# EAGLE library part LCDHEADERS (library third_eye)
PIN HEADER
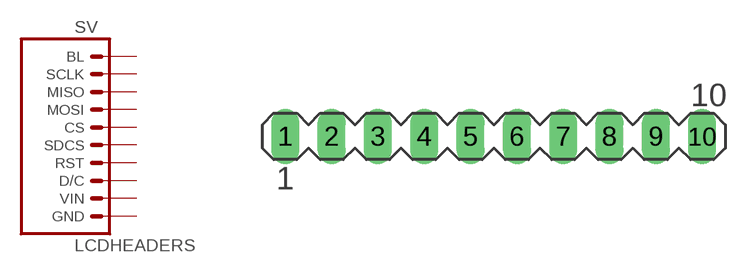
[diagram p1: symbol with the pads of MA10-1; footprint MA10-1]

Designator prefix SV

## LCDHEADERS (OC_FARNELL: unknown; OC_NEWARK: unknown)  [MA10-1]
1  GND  pas
2  VIN  pas
3  D/C  pas
4  RST  pas
5  SDCS  pas
6  CS  pas
7  MOSI  pas
8  MISO  pas
9  SCLK  pas
10  BL  pas

## Footprint MA10-1 (pad centres in mm)
PIN HEADER
drill 1.016 long: 1 -11.43,0; 2 -8.89,0; 3 -6.35,0; 4 -3.81,0; 5 -1.27,0; 6 1.27,0; 7 3.81,0; 8 6.35,0; 9 8.89,0; 10 11.43,0